# EAGLE library part S4B-PH-SM4-TB (library LIC_ALL-00)
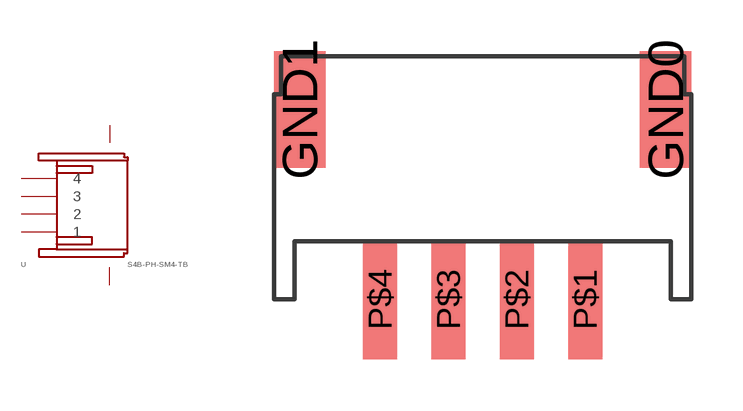
[diagram p6: symbol with the pads of SM4-SIDE; footprint SM4-SIDE]

Designator prefix -

## S4B-PH-SM4-TB-SIDE-TYPE  [SM4-SIDE]
GND0  GND1  pwr
GND1  GND0  pwr
P$1  1
P$2  2
P$3  3
P$4  4

## Footprint SM4-SIDE (pad centres in mm)
smd 1.5 x 3.4: GND0 5.35,5.55; GND1 -5.35,5.55
smd 1 x 3.5: P$1 3,0; P$2 1,0; P$3 -1,0; P$4 -3,0